# Altium schematic symbol library EM78P510_EM198810.SchLib: 4 symbols
Pins are listed as number, name and electrical type; pins without a type are passive.

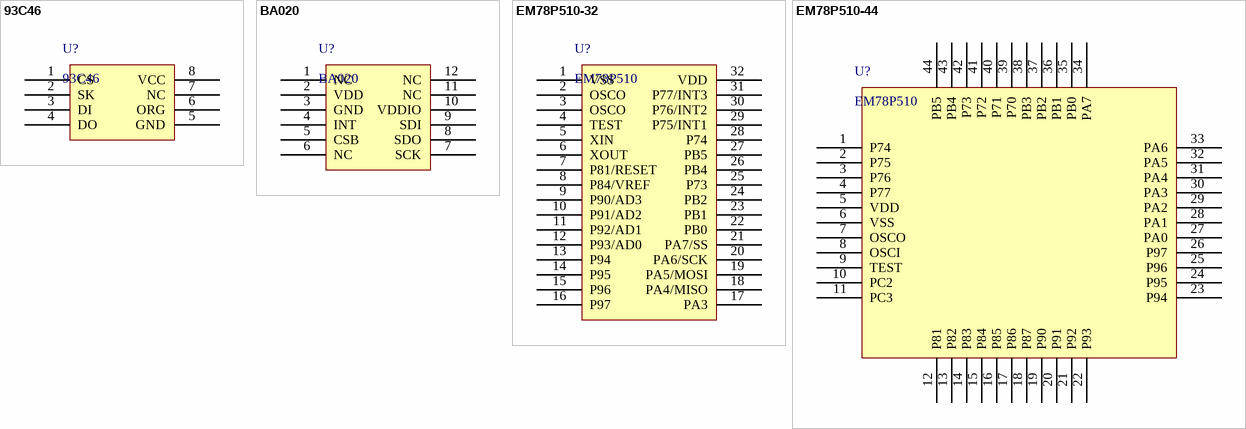
[diagram p0: symbols 93C46 to EM78P510-44]

## 93C46
designator U?
pins: 1 CS, 2 SK, 3 DI, 4 DO, 5 GND, 6 ORG, 7 NC, 8 VCC

## BA020
designator U?
pins: 1 NC, 2 VDD, 3 GND, 4 INT, 5 CSB, 6 NC, 7 SCK, 8 SDO, 9 SDI, 10 VDDIO, 11 NC, 12 NC

## EM78P510-32
designator U?, comment EM78P510
pins: 1 VSS, 2 OSCO, 3 OSCO, 4 TEST, 5 XIN, 6 XOUT, 7 P81/RESET, 8 P84/VREF, 9 P90/AD3, 10 P91/AD2, 11 P92/AD1, 12 P93/AD0, 13 P94, 14 P95, 15 P96, 16 P97, 17 PA3, 18 PA4/MISO, 19 PA5/MOSI, 20 PA6/SCK, 21 PA7/SS, 22 PB0, 23 PB1, 24 PB2, 25 P73, 26 PB4, 27 PB5, 28 P74, 29 P75/INT1, 30 P76/INT2, 31 P77/INT3, 32 VDD

## EM78P510-44
designator U?, comment EM78P510
pins: 1 P74, 2 P75, 3 P76, 4 P77, 5 VDD, 6 VSS, 7 OSCO, 8 OSCI, 9 TEST, 10 PC2, 11 PC3, 12 P81, 13 P82, 14 P83, 15 P84, 16 P85, 17 P86, 18 P87, 19 P90, 20 P91, 21 P92, 22 P93, 23 P94, 24 P95, 25 P96, 26 P97, 27 PA0, 28 PA1, 29 PA2, 30 PA3, 31 PA4, 32 PA5, 33 PA6, 34 PA7, 35 PB0, 36 PB1, 37 PB2, 38 PB3, 39 P70, 40 P71, 41 P72, 42 P73, 43 PB4, 44 PB5